# Altium footprint library Converter_DCDC.PcbLib: 115 footprints (part 8 of 8)
Each footprint in its own frame and in the unit in brackets; x right, y up, seen from the top. Pads: shape width x height; smd on the part's side, far side on the other; paste and mask are expansions set on the pad; w line width, h text height; cw(c..) or ccw(c..) is an arc to the next point about the centre after c.
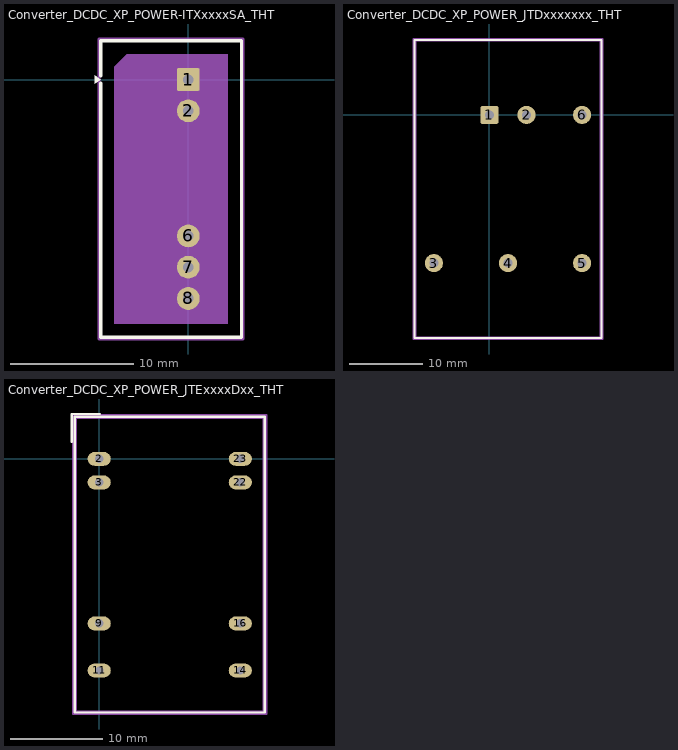
[diagram p7: the footprints below, top view; thin cyan lines are the x and y axes]

## Converter_DCDC_XP_POWER-ITXxxxxSA_THT [mm]
pads (5):
  rrect14% 1.85x1.85 hole 0.85: 1(0,0)
  round 1.85 hole 0.85: 2(0,-2.54) 6(0,-12.7) 7(0,-15.24) 8(0,-17.78)
F.SilkS:
  region: -7.11,0 -7.58,-0.34 -7.58,0.34
  lines w0.254: -7.11,-0.296 -7.11,-20.925 4.31,-20.925 4.31,3.145 -7.11,3.145 -7.11,0.296
Top Assembly:
  region: 3.2,-19.815 -6,-19.815 -6,1.035 -5,2.035 3.2,2.035
  text "'.Designator'" at -5.447,-9.73 h1
Top Courtyard:
  lines w0.254: -7.25,-21.07 4.45,-21.07 4.45,3.29 -7.25,3.29 -7.25,-21.07
Top Designator:
  text ".Designator" at -9.119,-9.398 h1.52

## Converter_DCDC_XP_POWER_JTDxxxxxxx_THT [mm]
pads (6):
  rrect25% 2.5x2.5 hole 1.25: 1(0,0)
  round 2.5 hole 1.25: 2(5.08,0) 3(-7.62,-20.32) 4(2.54,-20.32) 5(12.7,-20.32) 6(12.7,0)
F.SilkS:
  lines w0.254: -10.28,-30.6 15.36,-30.6 15.36,10.28 -10.28,10.28 -10.28,-30.6
Top Assembly:
  lines w0.254: -10.16,-30.48 15.24,-30.48 15.24,10.16 -10.16,10.16 -10.16,-30.48
  text "'.Designator'" at -1.507,-11 h1
Top Courtyard:
  lines w0.254: -10.41,-30.73 15.49,-30.73 15.49,10.41 -10.41,10.41 -10.41,-30.73
Top Designator:
  text ".Designator" at -5.078,-10.668 h1.52

## Converter_DCDC_XP_POWER_JTExxxxDxx_THT [mm]
pads (8):
  rrect100% 2.5x1.5 hole 0.91: 2(0,0) 3(0,-2.54) 9(0,-17.78) 11(0,-22.86) 14(15.24,-22.86) 16(15.24,-17.78) 22(15.24,-2.54) 23(15.24,0)
F.SilkS:
  lines w0.254: -2.95,1.845 -2.95,4.845 0.05,4.845 ; -2.64,-27.405 17.88,-27.405 17.88,4.545 -2.64,4.545 -2.64,-27.405
Top Assembly:
  lines w0.254: -2.54,-27.305 -2.54,4.455 ; -2.54,4.445 17.78,4.445 17.78,-27.305 -2.5,-27.305
  text "'.Designator'" at 3.573,-10.3 h1
Top Courtyard:
  lines w0.254: -2.79,-27.56 18.03,-27.56 18.03,4.7 -2.79,4.7 -2.79,-27.56
Top Designator:
  text ".Designator" at -0.078,-11.865 h1.52